# Altium schematic symbol library relay_schematic.SchLib: 2 symbols
Pins are listed as number, name and electrical type; pins without a type are passive.

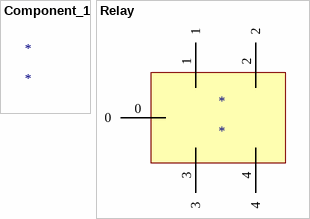
[diagram p0: symbols Component_1 to Relay]

## Component_1
designator *

## Relay
designator *
pins: 0, 1, 2, 3, 4